# Altium schematic symbol library Memory.SchLib: 3 symbols
Pins are listed as number, name and electrical type; pins without a type are passive.

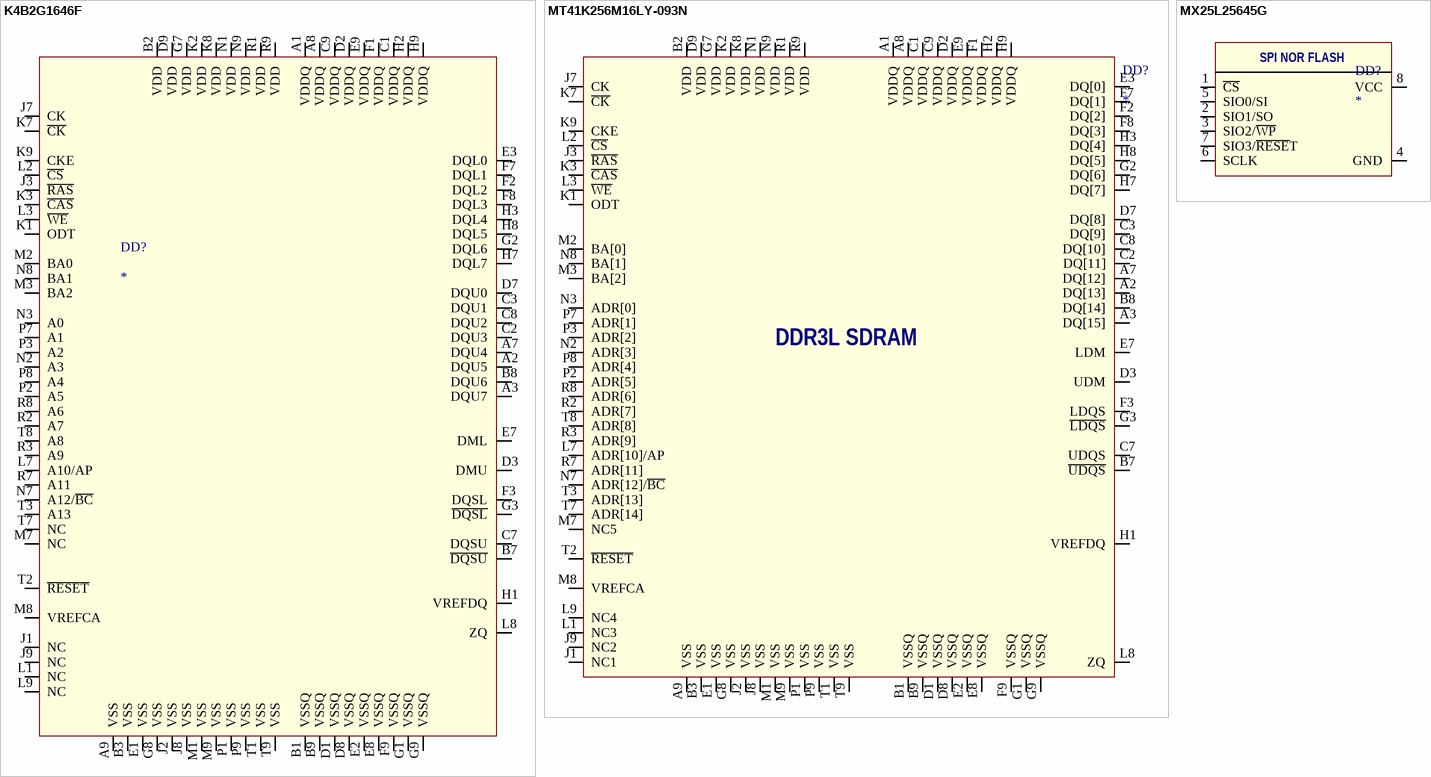
[diagram p0: symbols K4B2G1646F to MX25L25645G]

## K4B2G1646F
designator DD?
2Gb F-dieDDR3L SDRAMX16 1.35V; Manufacturer: SAMSUNG; Model: K4B2G1646F-BYMA; HelpURL: *; Package: *; Value: *
footprint BGA96_micron_ly_750X1350X110 (BGA, 96-Leads, Body 7,50x13,50mmx1,10mm, Pitch 0,80mm)
pins: A1 VDDQ "1", A2 DQU5 "2", A3 DQU7 "3", A7 DQU4 "4", A8 VDDQ "5", A9 VSS "6", B1 VSSQ "7", B2 VDD "8", B3 VSS "9", B7 ~{DQSU} "10", B8 DQU6 "11", B9 VSSQ "12", C1 VDDQ "13", C2 DQU3 "14", C3 DQU1 "15", C7 DQSU "16", C8 DQU2 "17", C9 VDDQ "18", D1 VSSQ "19", D2 VDDQ "20", D3 DMU "21", D7 DQU0 "22", D8 VSSQ "23", D9 VDD "24", E1 VSS "25", E2 VSSQ "26", E3 DQL0 "27", E7 DML "28", E8 VSSQ "29", E9 VDDQ "30", F1 VDDQ "31", F2 DQL2 "32", F3 DQSL "33", F7 DQL1 "34", F8 DQL3 "35", F9 VSSQ "36", G1 VSSQ "37", G2 DQL6 "38", G3 ~{DQSL} "39", G7 VDD "40", G8 VSS "41", G9 VSSQ "42", H1 VREFDQ "43", H2 VDDQ "44", H3 DQL4 "45", H7 DQL7 "46", H8 DQL5 "47", H9 VDDQ "48", J1 NC "49", J2 VSS "50", J3 ~{RAS} "51", J7 CK "52", J8 VSS "53", J9 NC "54", K1 ODT "55", K2 VDD "56", K3 ~{CAS} "57", K7 ~{CK} "58", K8 VDD "59", K9 CKE "60", L1 NC "61", L2 ~{CS} "62", L3 ~{WE} "63", L7 A10/AP "64", L8 ZQ "65", L9 NC "66", M1 VSS "67", M2 BA0 "68", M3 BA2 "69", M7 NC "70", M8 VREFCA "71", M9 VSS "72", N1 VDD "73", N2 A3 "74", N3 A0 "75", N7 A12/~{BC} "76", N8 BA1 "77", N9 VDD "78", P1 VSS "79", P2 A5 "80", P3 A2 "81", P7 A1 "82", P8 A4 "83", P9 VSS "84", R1 VDD "85", R2 A7 "86", R3 A9 "87", R7 A11 "88", R8 A6 "89", R9 VDD "90", T1 VSS "91", T2 ~{RESET} "92", T3 A13 "93", T7 NC "94", T8 A8 "95", T9 VSS "96"

## MT41K256M16LY-093N
designator DD?
DDR3L SDRAM 32 Meg x16 x 8 bank
footprint BGA96_micron_ly_750X1350X110 (BGA, 96-Leads, Body 7,50x13,50mmx1,10mm, Pitch 0,80mm)
footprint BGA96_MICRON_TW_800X1400X110 (BGA, 96-Leads, Body 8,00x14,00mmx1,10mm, Pitch 0,80mm)
pins: A1 VDDQ, A2 DQ[13] "Bi-directional data BUS", A3 DQ[15] "Bi-directional data BUS", A7 DQ[12] "Bi-directional data BUS", A8 VDDQ, A9 VSS, B1 VSSQ, B2 VDD, B3 VSS, B7 ~{UDQS} "data strobe diff pair", B8 DQ[14] "Bi-directional data BUS", B9 VSSQ, C1 VDDQ, C2 DQ[11] "Bi-directional data BUS", C3 DQ[9] "Bi-directional data BUS", C7 UDQS "data strobe", C8 DQ[10] "Bi-directional data BUS", C9 VDDQ, D1 VSSQ, D2 VDDQ, D3 UDM "data write mask", D7 DQ[8] "Bi-directional data BUS", D8 VSSQ, D9 VDD, E1 VSS, E2 VSSQ, E3 DQ[0] "Bi-directional data BUS", E7 LDM "data write mask", E8 VSSQ, E9 VDDQ, F1 VDDQ, F2 DQ[2] "Bi-directional data BUS", F3 LDQS "data strobe", F7 DQ[1] "Bi-directional data BUS", F8 DQ[3] "Bi-directional data BUS", F9 VSSQ, G1 VSSQ, G2 DQ[6] "Bi-directional data BUS", G3 ~{LDQS} "data strobe diff pair", G7 VDD, G8 VSS, G9 VSSQ, H1 VREFDQ, H2 VDDQ, H3 DQ[4] "Bi-directional data BUS", H7 DQ[7] "Bi-directional data BUS", H8 DQ[5] "Bi-directional data BUS", H9 VDDQ, J1 NC1, J2 VSS, J3 ~{RAS} "Row addresstrobe", J7 CK "DRAM clock per SDRAM", J8 VSS, J9 NC2, K1 ODT "SDRAM on-die termination control sign", K2 VDD, K3 ~{CAS} "column addres strobe strobe", K7 ~{CK} "DDR_CK and DDR_CK_BAR are diff clock", K8 VDD, K9 CKE "clock enable", L1 NC3, L2 ~{CS} "chip select for die2", L3 ~{WE} "Write enable", L7 ADR[10]/AP "Addres for row (RAS)and column (CAS) strobe", L8 ZQ, L9 NC4, M1 VSS, M2 BA[0] "Bank address", M3 BA[2] "Bank address", M7 NC5 "Addres for row (RAS)and column (CAS) strobe", M8 VREFCA "refrence voltage", M9 VSS, N1 VDD, N2 ADR[3] "Addres for row (RAS)and column (CAS) strobe", N3 ADR[0] "Addres for row (RAS)and column (CAS) strobe", N7 ADR[12]/~{BC} "Addres for row (RAS)and column (CAS) strobe", N8 BA[1] "Bank address", N9 VDD, P1 VSS, P2 ADR[5] "Addres for row (RAS)and column (CAS) strobe", P3 ADR[2] "Addres for row (RAS)and column (CAS) strobe", P7 ADR[1] "Addres for row (RAS)and column (CAS) strobe", P8 ADR[4] "Addres for row (RAS)and column (CAS) strobe", P9 VSS, R1 VDD, R2 ADR[7] "Addres for row (RAS)and column (CAS) strobe", R3 ADR[9] "Addres for row (RAS)and column (CAS) strobe", R7 ADR[11] "Addres for row (RAS)and column (CAS) strobe", R8 ADR[6] "Addres for row (RAS)and column (CAS) strobe", R9 VDD, T1 VSS, T2 ~{RESET} "DDR3 Async. reset", T3 ADR[13] "Addres for row (RAS)and column (CAS) strobe", T7 ADR[14] "Addres for row (RAS)and column (CAS) strobe", T8 ADR[8] "Addres for row (RAS)and column (CAS) strobe", T9 VSS
text: DDR3L SDRAM

## MX25L25645G
designator DD?
SPI NOR FLASH
footprint SOP127P790X195-8N (SOP, 8-Leads, Body 5,23x5,28mm, Pitch 1,27mm, IPC Medium Density)
pins: 1 ~{CS}, 2 SIO1/SO, 3 SIO2/~{WP}, 4 GND, 5 SIO0/SI, 6 SCLK, 7 SIO3/~{RESE}T, 8 VCC